# Altium schematic symbol library bmp280.SchLib: 1 symbol
Pins are listed as number, name and electrical type; pins without a type are passive.

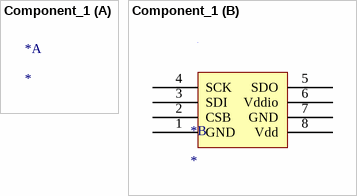
[diagram p0: symbol Component_1]

## Component_1
designator *
part B pins: 1 GND, 2 CSB, 3 SDI, 4 SCK, 5 SDO, 6 Vddio, 7 GND, 8 Vdd